# Altium schematic symbol library ST-STM32L010K.SchLib: 1 symbol
Pins are listed as number, name and electrical type; pins without a type are passive.

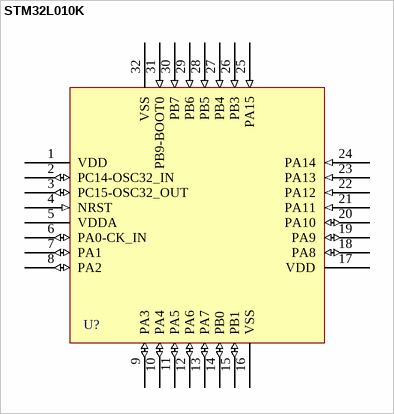
[diagram p0: symbol STM32L010K]

## STM32L010K
designator U?
pins: 1 VDD (power), 2 PC14-OSC32_IN (io), 3 PC15-OSC32_OUT (io), 4 NRST (in), 5 VDDA (power), 6 PA0-CK_IN (io), 7 PA1 (io), 8 PA2 (io), 9 PA3 (io), 10 PA4 (io), 11 PA5 (io), 12 PA6 (io), 13 PA7 (io), 14 PB0 (io), 15 PB1 (io), 16 VSS (power), 17 VDD (power), 18 PA8 (io), 19 PA9 (io), 20 PA10 (io), 21 PA11 (in), 22 PA12 (in), 23 PA13 (in), 24 PA14 (in), 25 PA15 (in), 26 PB3 (in), 27 PB4 (in), 28 PB5 (in), 29 PB6 (in), 30 PB7 (in), 31 PB9-BOOT0 (in), 32 VSS (power)